# Altium footprint library PCB1.PCBLIB: 35 footprints (part 3 of 3)
Each footprint in its own frame and in the unit in brackets; x right, y up, seen from the top. Pads: shape width x height; smd on the part's side, far side on the other; paste and mask are expansions set on the pad; w line width, h text height; cw(c..) or ccw(c..) is an arc to the next point about the centre after c.
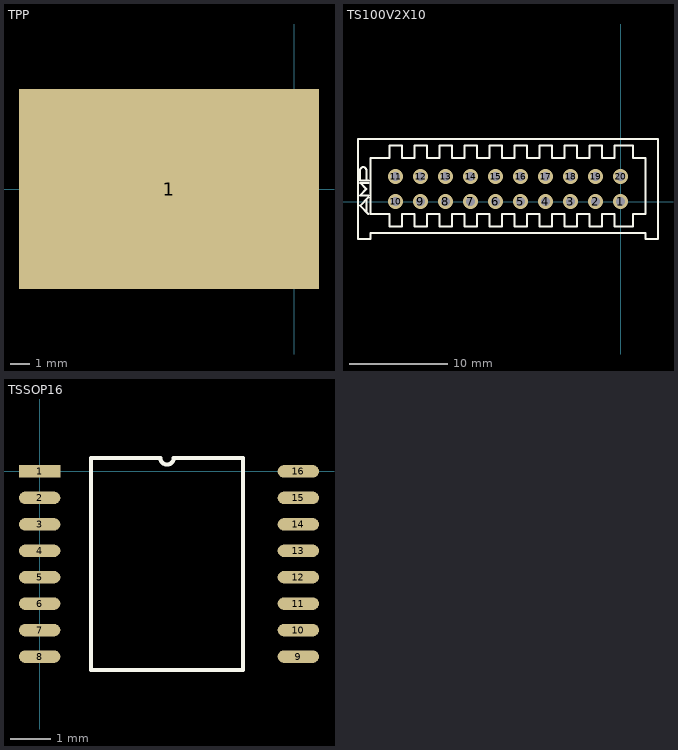
[diagram p2: the footprints below, top view; thin cyan lines are the x and y axes]

## TPP [mm]
pads (1):
  rect 15.24x10.16 smd: 1(-6.35,0)

## TS100V2X10 [mil]
pads (20):
  round 60 hole 35: 1(0,0) 2(-100,0) 3(-200,0) 4(-300,0) 5(-400,0) 6(-500,0) 7(-600,0) 8(-700,0) 9(-800,0) 10(-900,0) 11(-900,100) 12(-800,100) 13(-700,100) 14(-600,100) 15(-500,100) 16(-400,100) 17(-300,100) 18(-200,100) 19(-100,100) 20(0,100)
TopOverlay:
  lines w8: -1016.67,-41.67 -1016.67,8.33 ; -1016.67,83.33 -1016.67,125 ccw(c-1029.17,125) -1041.67,125 -1041.67,83.33 -1008.33,83.33 ; -1008.33,-50 -1041.67,-16.67 -1008.33,16.67 ; -1008.33,25 -1041.67,25 -1016.67,50 -1041.67,75 -1008.33,75 ; -1050,-150 -1050,250 150,250 150,-150 100,-150 100,-125 -1000,-125 -1000,-150 -1050,-150 ; -1000,-50 -925,-50 -925,-100 -875,-100 -875,-50 -825,-50 -825,-100 -775,-100 -775,-50 -725,-50 -725,-100 -675,-100 -675,-50 -625,-50 -625,-100 -575,-100 -575,-50 -525,-50 -525,-100 -475,-100 -475,-50 -425,-50 -425,-100 -375,-100 -375,-50 -325,-50 -325,-100 -275,-100 -275,-50 -225,-50 -225,-100 -175,-100 -175,-50 -125,-50 -125,-100 -75,-100 -75,-50 -25,-50 -25,-100 50,-100 50,-50 100,-50 100,175 50,175 50,225 -25,225 -25,175 -75,175 -75,225 -125,225 -125,175 -175,175 -175,225 -225,225 -225,175 -275,175 -275,225 -325,225 -325,175 -375,175 -375,225 -425,225 -425,175 -475,175 -475,225 -525,225 -525,175 -575,175 -575,225 -625,225 -625,175 -675,175 -675,225 -725,225 -725,175 -775,175 -775,225 -825,225 -825,175 -875,175 -875,225 -925,225 -925,175 -1000,175 -1000,-50

## TSSOP16 [mil]
pads (16):
  rect 40x12 smd: 1(0,0)
  oval 40x12 smd: 2(0,-25.59) 3(0,-51.18) 4(0,-76.77) 5(0,-102.36) 6(0,-127.95) 7(0,-153.54) 8(0,-179.13) 9(250,-179.13) 10(250,-153.54) 11(250,-127.95) 12(250,-102.36) 13(250,-76.77) 14(250,-51.18) 15(250,-25.59) 16(250,0)
TopOverlay:
  lines w3.94: 49.69,-191.93 49.69,12.8 116.71,12.8 ccw(c123.11,12.8) 129.51,12.8 196.54,12.8 196.54,-191.93 49.69,-191.93